# Altium schematic symbol library Fuses.SchLib: 1 symbol
Pins are listed as number, name and electrical type; pins without a type are passive.

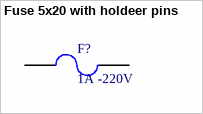
[diagram p0: symbol Fuse 5x20 with holdeer pins]

## Fuse 5x20 with holdeer pins
designator F?, comment 1A -220V
Fuses 5x20; VALE: 1A -220V
footprint Fuse 5x20 With holder pin
footprint fuse23*9mm
pins: 1, 2